# Altium footprint library TPS259824ONRGET.PcbLib: 3 footprints
Each footprint in its own frame and in the unit in brackets; x right, y up, seen from the top. Pads: shape width x height; smd on the part's side, far side on the other; paste and mask are expansions set on the pad; w line width, h text height; cw(c..) or ccw(c..) is an arc to the next point about the centre after c.
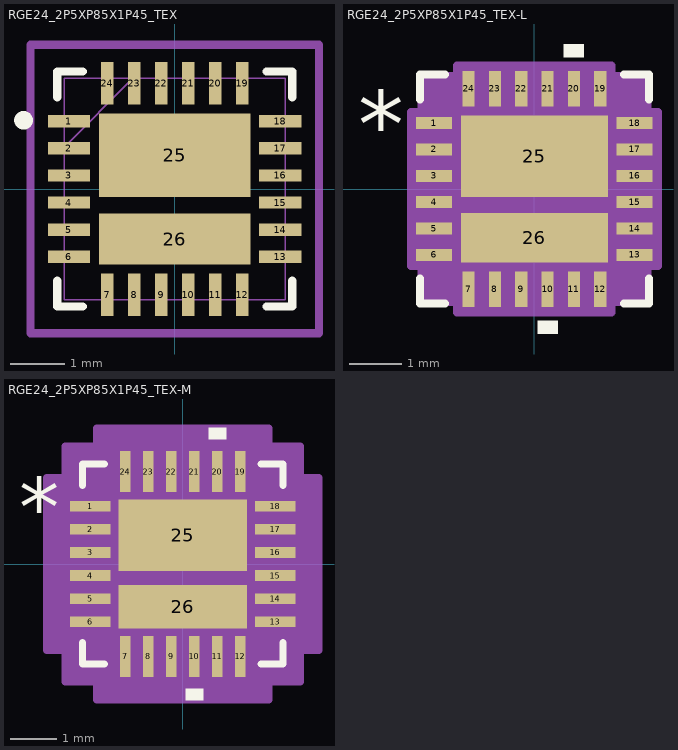
[diagram p0: the footprints below, top view; thin cyan lines are the x and y axes]

## RGE24_2P5XP85X1P45_TEX [mm]
pads (26):
  rect 0.783x0.229 smd paste+0 mask+0: 1(-1.953,1.25) 2(-1.953,0.75) 3(-1.953,0.25) 4(-1.953,-0.25) 5(-1.953,-0.75) 6(-1.953,-1.25) 13(1.953,-1.25) 14(1.953,-0.75) 15(1.953,-0.25) 16(1.953,0.25) 17(1.953,0.75) 18(1.953,1.25)
  rect 0.229x0.783 smd paste+0 mask+0: 7(-1.25,-1.953) 8(-0.75,-1.953) 9(-0.25,-1.953) 10(0.25,-1.953) 11(0.75,-1.953) 12(1.25,-1.953) 19(1.25,1.953) 20(0.75,1.953) 21(0.25,1.953) 22(-0.25,1.953) 23(-0.75,1.953) 24(-1.25,1.953)
  rect 2.794x1.549 smd paste+0 mask+0: 25(0,0.625)
  rect 2.794x0.94 smd paste+0 mask+0: 26(0,-0.925)
Top Overlay:
  circle w0.178: c-2.794,1.27 r0.083
  lines w0.152: -2.172,-1.697 -2.172,-2.172 -1.697,-2.172 ; -2.172,1.697 -2.172,2.172 -1.697,2.172 ; 1.697,-2.172 2.172,-2.172 2.172,-1.697 ; 1.697,2.172 2.172,2.172 2.172,1.697
Mechanical 13:
  lines w0.025: -2.045,0.775 -0.775,2.045 ; -2.045,-2.045 -2.045,2.045 2.045,2.045 2.045,-2.045 -2.045,-2.045 ; -2.045,-1.39 -2.045,-1.11 -2.045,-1.39 ; -2.045,-0.89 -2.045,-0.61 -2.045,-0.89 ; -2.045,-0.39 -2.045,-0.11 -2.045,-0.39 ; -2.045,0.11 -2.045,0.39 -2.045,0.11 ; -2.045,0.61 -2.045,0.89 -2.045,0.61 ; -2.045,1.11 -2.045,1.39 -2.045,1.11 ; -1.39,-2.045 -1.11,-2.045 -1.39,-2.045 ; -1.39,2.045 -1.11,2.045 -1.39,2.045 ; -0.89,-2.045 -0.61,-2.045 -0.89,-2.045 ; -0.89,2.045 -0.61,2.045 -0.89,2.045 ; -0.39,-2.045 -0.11,-2.045 -0.39,-2.045 ; -0.39,2.045 -0.11,2.045 -0.39,2.045 ; 0.11,-2.045 0.39,-2.045 0.11,-2.045 ; 0.11,2.045 0.39,2.045 0.11,2.045 ; 0.61,-2.045 0.89,-2.045 0.61,-2.045 ; 0.61,2.045 0.89,2.045 0.61,2.045 ; 1.11,-2.045 1.39,-2.045 1.11,-2.045 ; 1.11,2.045 1.39,2.045 1.11,2.045 ; 2.045,-1.39 2.045,-1.11 2.045,-1.39 ; 2.045,-0.89 2.045,-0.61 2.045,-0.89 ; 2.045,-0.39 2.045,-0.11 2.045,-0.39 ; 2.045,0.11 2.045,0.39 2.045,0.11 ; 2.045,0.61 2.045,0.89 2.045,0.61 ; 2.045,1.11 2.045,1.39 2.045,1.11
Mechanical 15:
  lines w0.152: -2.667,-2.667 -2.667,2.667 2.667,2.667 2.667,-2.667 -2.667,-2.667
3D body "RGE0024M.stp": height 1, standoff 0, extent -2,-2 2,2

## RGE24_2P5XP85X1P45_TEX-L [mm]
pads (26):
  rect 0.683x0.229 smd paste+0 mask+0: 1(-1.903,1.25) 2(-1.903,0.75) 3(-1.903,0.25) 4(-1.903,-0.25) 5(-1.903,-0.75) 6(-1.903,-1.25) 13(1.903,-1.25) 14(1.903,-0.75) 15(1.903,-0.25) 16(1.903,0.25) 17(1.903,0.75) 18(1.903,1.25)
  rect 0.229x0.683 smd paste+0 mask+0: 7(-1.25,-1.903) 8(-0.75,-1.903) 9(-0.25,-1.903) 10(0.25,-1.903) 11(0.75,-1.903) 12(1.25,-1.903) 19(1.25,1.903) 20(0.75,1.903) 21(0.25,1.903) 22(-0.25,1.903) 23(-0.75,1.903) 24(-1.25,1.903)
  rect 2.794x1.549 smd paste+0 mask+0: 25(0,0.625)
  rect 2.794x0.94 smd paste+0 mask+0: 26(0,-0.925)
Top Overlay:
  region: 0.44,-2.499 0.059,-2.499 0.059,-2.753 0.44,-2.753
  region: 0.941,2.499 0.56,2.499 0.56,2.753 0.941,2.753
  lines w0.152: -2.172,-1.697 -2.172,-2.172 -1.697,-2.172 ; -2.172,1.697 -2.172,2.172 -1.697,2.172 ; 1.697,-2.172 2.172,-2.172 2.172,-1.697 ; 1.697,2.172 2.172,2.172 2.172,1.697
  text "*" at -3.35,0.615 h1.27
  text ".Designator" at -3.492,-0.635 h1.27
Mechanical 13:
  lines w0.025: -2.045,0.775 -0.775,2.045 ; -2.045,-1.39 -2.045,-1.11 ; -2.045,-1.39 -2.045,-1.11 ; -2.045,-1.39 -2.045,-1.39 ; -2.045,-1.11 -2.045,-1.11 ; -2.045,-0.89 -2.045,-0.61 ; -2.045,-0.89 -2.045,-0.61 ; -2.045,-0.89 -2.045,-0.89 ; -2.045,-0.61 -2.045,-0.61 ; -2.045,-0.39 -2.045,-0.11 ; -2.045,-0.39 -2.045,-0.11 ; -2.045,-0.39 -2.045,-0.39 ; -2.045,-0.11 -2.045,-0.11 ; -2.045,0.11 -2.045,0.39 ; -2.045,0.11 -2.045,0.39 ; -2.045,0.11 -2.045,0.11 ; -2.045,0.39 -2.045,0.39 ; -2.045,0.61 -2.045,0.89 ; -2.045,0.61 -2.045,0.89 ; -2.045,0.61 -2.045,0.61 ; -2.045,0.89 -2.045,0.89 ; -2.045,1.11 -2.045,1.39 ; -2.045,1.11 -2.045,1.39 ; -2.045,1.11 -2.045,1.11 ; -2.045,1.39 -2.045,1.39 ; -1.39,-2.045 -1.11,-2.045 ; -1.39,-2.045 -1.39,-2.045 ; -1.39,-2.045 -1.11,-2.045 ; -1.39,2.045 -1.11,2.045 ; -1.39,2.045 -1.11,2.045 ; -1.39,2.045 -1.39,2.045 ; -1.11,-2.045 -1.11,-2.045 ; -1.11,2.045 -1.11,2.045 ; -0.89,-2.045 -0.61,-2.045 ; -0.89,-2.045 -0.89,-2.045 ; -0.89,-2.045 -0.61,-2.045 ; -0.89,2.045 -0.61,2.045 ; -0.89,2.045 -0.61,2.045 ; -0.89,2.045 -0.89,2.045 ; -0.61,-2.045 -0.61,-2.045 ; -0.61,2.045 -0.61,2.045 ; -0.39,-2.045 -0.11,-2.045 ; -0.39,-2.045 -0.39,-2.045 ; -0.39,-2.045 -0.11,-2.045 ; -0.39,2.045 -0.11,2.045 ; -0.39,2.045 -0.11,2.045 ; -0.39,2.045 -0.39,2.045 ; -0.11,-2.045 -0.11,-2.045 ; -0.11,2.045 -0.11,2.045 ; 0.11,-2.045 0.39,-2.045 ; 0.11,-2.045 0.11,-2.045 ; 0.11,-2.045 0.39,-2.045 ; 0.11,2.045 0.39,2.045 ; 0.11,2.045 0.39,2.045 ; 0.11,2.045 0.11,2.045 ; 0.39,-2.045 0.39,-2.045 ; 0.39,2.045 0.39,2.045 ; 0.61,-2.045 0.89,-2.045 ; 0.61,-2.045 0.61,-2.045 ; 0.61,-2.045 0.89,-2.045 ; 0.61,2.045 0.89,2.045 ; 0.61,2.045 0.89,2.045 ; 0.61,2.045 0.61,2.045 ; 0.89,-2.045 0.89,-2.045 ; 0.89,2.045 0.89,2.045 ; 1.11,-2.045 1.39,-2.045 ; 1.11,-2.045 1.11,-2.045 ; 1.11,-2.045 1.39,-2.045 ; 1.11,2.045 1.39,2.045 ; 1.11,2.045 1.39,2.045 ; 1.11,2.045 1.11,2.045 ; 1.39,-2.045 1.39,-2.045 ; 1.39,2.045 1.39,2.045 ; 2.045,-1.39 2.045,-1.11 ; 2.045,-1.39 2.045,-1.39 ; 2.045,-1.39 2.045,-1.11 ; 2.045,-1.11 2.045,-1.11 ; 2.045,-0.89 2.045,-0.61 ; 2.045,-0.89 2.045,-0.89 ; 2.045,-0.89 2.045,-0.61 ; 2.045,-0.61 2.045,-0.61 ; 2.045,-0.39 2.045,-0.11 ; 2.045,-0.39 2.045,-0.39 ; 2.045,-0.39 2.045,-0.11 ; 2.045,-0.11 2.045,-0.11 ; 2.045,0.11 2.045,0.39 ; 2.045,0.11 2.045,0.11 ; 2.045,0.11 2.045,0.39 ; 2.045,0.39 2.045,0.39 ; 2.045,0.61 2.045,0.89 ; 2.045,0.61 2.045,0.61 ; 2.045,0.61 2.045,0.89 ; 2.045,0.89 2.045,0.89 ; 2.045,1.11 2.045,1.39 ; 2.045,1.11 2.045,1.11 ; 2.045,1.11 2.045,1.39 ; 2.045,1.39 2.045,1.39 ; -2.045,-2.045 2.045,-2.045 2.045,2.045 -2.045,2.045 -2.045,-2.045
  text ".Designator" at -3.492,-0.635 h1.27
  text "*" at -1.092,0.615 h1.27
Mechanical 15:
  region: -1.466,-2.146 -2.146,-2.146 -2.146,-1.466 -2.346,-1.466 -2.346,1.466 -2.146,1.466 -2.146,2.146 -1.466,2.146 -1.466,2.346 1.466,2.346 1.466,2.146 2.146,2.146 2.146,1.466 2.346,1.466 2.346,-1.466 2.146,-1.466 2.146,-2.146 1.466,-2.146 1.466,-2.346 -1.466,-2.346
  lines w0.152: -2.346,-1.466 -2.146,-1.466 -2.146,-2.146 -1.466,-2.146 -1.466,-2.346 1.466,-2.346 1.466,-2.146 2.146,-2.146 2.146,-1.466 2.346,-1.466 2.346,1.466 2.146,1.466 2.146,2.146 1.466,2.146 1.466,2.346 -1.466,2.346 -1.466,2.146 -2.146,2.146 -2.146,1.466 -2.346,1.466 -2.346,-1.466
3D body "RGE24_2P5XP85X1P45_TEX.step": height 0.99, standoff 0, extent -2.045,-2.045 2.045,2.045

## RGE24_2P5XP85X1P45_TEX-M [mm]
pads (26):
  rect 0.883x0.229 smd paste+0 mask+0: 1(-2.003,1.25) 2(-2.003,0.75) 3(-2.003,0.25) 4(-2.003,-0.25) 5(-2.003,-0.75) 6(-2.003,-1.25) 13(2.003,-1.25) 14(2.003,-0.75) 15(2.003,-0.25) 16(2.003,0.25) 17(2.003,0.75) 18(2.003,1.25)
  rect 0.229x0.883 smd paste+0 mask+0: 7(-1.25,-2.003) 8(-0.75,-2.003) 9(-0.25,-2.003) 10(0.25,-2.003) 11(0.75,-2.003) 12(1.25,-2.003) 19(1.25,2.003) 20(0.75,2.003) 21(0.25,2.003) 22(-0.25,2.003) 23(-0.75,2.003) 24(-1.25,2.003)
  rect 2.794x1.549 smd paste+0 mask+0: 25(0,0.625)
  rect 2.794x0.94 smd paste+0 mask+0: 26(0,-0.925)
Top Overlay:
  region: 0.44,-2.699 0.059,-2.699 0.059,-2.953 0.44,-2.953
  region: 0.941,2.699 0.56,2.699 0.56,2.953 0.941,2.953
  lines w0.152: -2.172,-1.697 -2.172,-2.172 -1.697,-2.172 ; -2.172,1.697 -2.172,2.172 -1.697,2.172 ; 1.697,-2.172 2.172,-2.172 2.172,-1.697 ; 1.697,2.172 2.172,2.172 2.172,1.697
  text "*" at -3.55,0.615 h1.27
  text ".Designator" at -3.492,-0.635 h1.27
Mechanical 13:
  lines w0.025: -2.045,0.775 -0.775,2.045 ; -2.045,-1.39 -2.045,-1.11 ; -2.045,-1.39 -2.045,-1.11 ; -2.045,-1.39 -2.045,-1.39 ; -2.045,-1.11 -2.045,-1.11 ; -2.045,-0.89 -2.045,-0.61 ; -2.045,-0.89 -2.045,-0.61 ; -2.045,-0.89 -2.045,-0.89 ; -2.045,-0.61 -2.045,-0.61 ; -2.045,-0.39 -2.045,-0.11 ; -2.045,-0.39 -2.045,-0.11 ; -2.045,-0.39 -2.045,-0.39 ; -2.045,-0.11 -2.045,-0.11 ; -2.045,0.11 -2.045,0.39 ; -2.045,0.11 -2.045,0.39 ; -2.045,0.11 -2.045,0.11 ; -2.045,0.39 -2.045,0.39 ; -2.045,0.61 -2.045,0.89 ; -2.045,0.61 -2.045,0.89 ; -2.045,0.61 -2.045,0.61 ; -2.045,0.89 -2.045,0.89 ; -2.045,1.11 -2.045,1.39 ; -2.045,1.11 -2.045,1.39 ; -2.045,1.11 -2.045,1.11 ; -2.045,1.39 -2.045,1.39 ; -1.39,-2.045 -1.11,-2.045 ; -1.39,-2.045 -1.39,-2.045 ; -1.39,-2.045 -1.11,-2.045 ; -1.39,2.045 -1.11,2.045 ; -1.39,2.045 -1.11,2.045 ; -1.39,2.045 -1.39,2.045 ; -1.11,-2.045 -1.11,-2.045 ; -1.11,2.045 -1.11,2.045 ; -0.89,-2.045 -0.61,-2.045 ; -0.89,-2.045 -0.89,-2.045 ; -0.89,-2.045 -0.61,-2.045 ; -0.89,2.045 -0.61,2.045 ; -0.89,2.045 -0.61,2.045 ; -0.89,2.045 -0.89,2.045 ; -0.61,-2.045 -0.61,-2.045 ; -0.61,2.045 -0.61,2.045 ; -0.39,-2.045 -0.11,-2.045 ; -0.39,-2.045 -0.39,-2.045 ; -0.39,-2.045 -0.11,-2.045 ; -0.39,2.045 -0.11,2.045 ; -0.39,2.045 -0.11,2.045 ; -0.39,2.045 -0.39,2.045 ; -0.11,-2.045 -0.11,-2.045 ; -0.11,2.045 -0.11,2.045 ; 0.11,-2.045 0.39,-2.045 ; 0.11,-2.045 0.11,-2.045 ; 0.11,-2.045 0.39,-2.045 ; 0.11,2.045 0.39,2.045 ; 0.11,2.045 0.39,2.045 ; 0.11,2.045 0.11,2.045 ; 0.39,-2.045 0.39,-2.045 ; 0.39,2.045 0.39,2.045 ; 0.61,-2.045 0.89,-2.045 ; 0.61,-2.045 0.61,-2.045 ; 0.61,-2.045 0.89,-2.045 ; 0.61,2.045 0.89,2.045 ; 0.61,2.045 0.89,2.045 ; 0.61,2.045 0.61,2.045 ; 0.89,-2.045 0.89,-2.045 ; 0.89,2.045 0.89,2.045 ; 1.11,-2.045 1.39,-2.045 ; 1.11,-2.045 1.11,-2.045 ; 1.11,-2.045 1.39,-2.045 ; 1.11,2.045 1.39,2.045 ; 1.11,2.045 1.39,2.045 ; 1.11,2.045 1.11,2.045 ; 1.39,-2.045 1.39,-2.045 ; 1.39,2.045 1.39,2.045 ; 2.045,-1.39 2.045,-1.11 ; 2.045,-1.39 2.045,-1.39 ; 2.045,-1.39 2.045,-1.11 ; 2.045,-1.11 2.045,-1.11 ; 2.045,-0.89 2.045,-0.61 ; 2.045,-0.89 2.045,-0.89 ; 2.045,-0.89 2.045,-0.61 ; 2.045,-0.61 2.045,-0.61 ; 2.045,-0.39 2.045,-0.11 ; 2.045,-0.39 2.045,-0.39 ; 2.045,-0.39 2.045,-0.11 ; 2.045,-0.11 2.045,-0.11 ; 2.045,0.11 2.045,0.39 ; 2.045,0.11 2.045,0.11 ; 2.045,0.11 2.045,0.39 ; 2.045,0.39 2.045,0.39 ; 2.045,0.61 2.045,0.89 ; 2.045,0.61 2.045,0.61 ; 2.045,0.61 2.045,0.89 ; 2.045,0.89 2.045,0.89 ; 2.045,1.11 2.045,1.39 ; 2.045,1.11 2.045,1.11 ; 2.045,1.11 2.045,1.39 ; 2.045,1.39 2.045,1.39 ; -2.045,-2.045 2.045,-2.045 2.045,2.045 -2.045,2.045 -2.045,-2.045
  text ".Designator" at -3.492,-0.635 h1.27
  text "*" at -1.092,0.615 h1.27
Mechanical 15:
  region: -1.873,-2.553 -2.553,-2.553 -2.553,-1.873 -2.953,-1.873 -2.953,1.873 -2.553,1.873 -2.553,2.553 -1.873,2.553 -1.873,2.953 1.873,2.953 1.873,2.553 2.553,2.553 2.553,1.873 2.953,1.873 2.953,-1.873 2.553,-1.873 2.553,-2.553 1.873,-2.553 1.873,-2.953 -1.873,-2.953
  lines w0.152: -2.953,-1.873 -2.553,-1.873 -2.553,-2.553 -1.873,-2.553 -1.873,-2.953 1.873,-2.953 1.873,-2.553 2.553,-2.553 2.553,-1.873 2.953,-1.873 2.953,1.873 2.553,1.873 2.553,2.553 1.873,2.553 1.873,2.953 -1.873,2.953 -1.873,2.553 -2.553,2.553 -2.553,1.873 -2.953,1.873 -2.953,-1.873
3D body "RGE24_2P5XP85X1P45_TEX.step": height 0.99, standoff 0, extent -2.045,-2.045 2.045,2.045